# EAGLE library part XC9572XL (library NBitWonder)
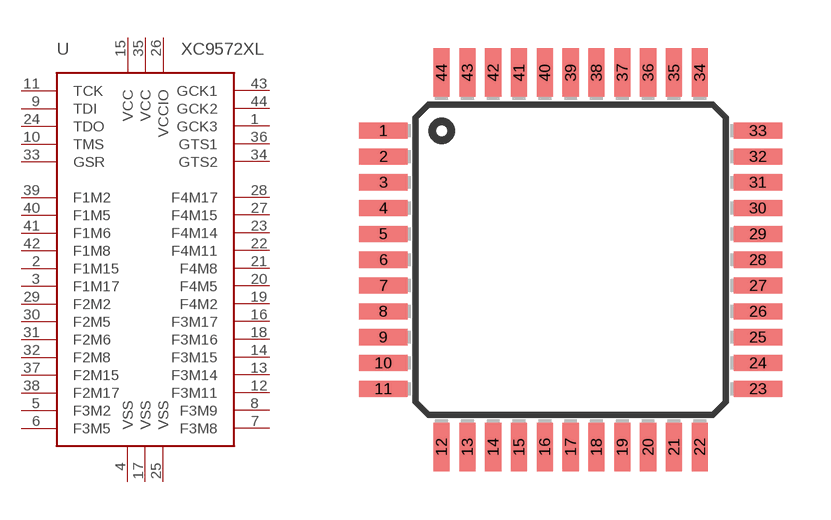
[diagram p2: symbol with the pads of TQFP44-08; footprint TQFP44-08]

Designator prefix -

## XC9572XL  [TQFP44-08]
1  GCK3
2  F1M15
3  F1M17
4  VSS  pwr
5  F3M2
6  F3M5
7  F3M8
8  F3M9
9  TDI  in
10  TMS  in
11  TCK  in
12  F3M11
13  F3M14
14  F3M15
15  VCC  pwr
16  F3M17
17  VSS  pwr
18  F3M16
19  F4M2
20  F4M5
21  F4M8
22  F4M11
23  F4M14
24  TDO  out
25  VSS  pwr
26  VCCIO  pwr
27  F4M15
28  F4M17
29  F2M2
30  F2M5
31  F2M6
32  F2M8
33  GSR
34  GTS2
35  VCC  pwr
36  GTS1
37  F2M15
38  F2M17
39  F1M2
40  F1M5
41  F1M6
42  F1M8
43  GCK1
44  GCK2

## Footprint TQFP44-08 (pad centres in mm)
Thin Quad Flat Pack package type TQ
smd 1.5 x 0.5: 1 -5.8,4; 2 -5.8,3.2; 3 -5.8,2.4; 4 -5.8,1.6; 5 -5.8,0.8; 6 -5.8,0; 7 -5.8,-0.8; 8 -5.8,-1.6; 9 -5.8,-2.4; 10 -5.8,-3.2; 11 -5.8,-4; 23 5.8,-4; 24 5.8,-3.2; 25 5.8,-2.4; 26 5.8,-1.6; 27 5.8,-0.8; 28 5.8,0; 29 5.8,0.8; 30 5.8,1.6; 31 5.8,2.4; 32 5.8,3.2; 33 5.8,4
smd 0.5 x 1.5: 12 -4,-5.8; 13 -3.2,-5.8; 14 -2.4,-5.8; 15 -1.6,-5.8; 16 -0.8,-5.8; 17 0,-5.8; 18 0.8,-5.8; 19 1.6,-5.8; 20 2.4,-5.8; 21 3.2,-5.8; 22 4,-5.8; 34 4,5.8; 35 3.2,5.8; 36 2.4,5.8; 37 1.6,5.8; 38 0.8,5.8; 39 0,5.8; 40 -0.8,5.8; 41 -1.6,5.8; 42 -2.4,5.8; 43 -3.2,5.8; 44 -4,5.8